# EAGLE library part MK71251-02 (library lz-shield)
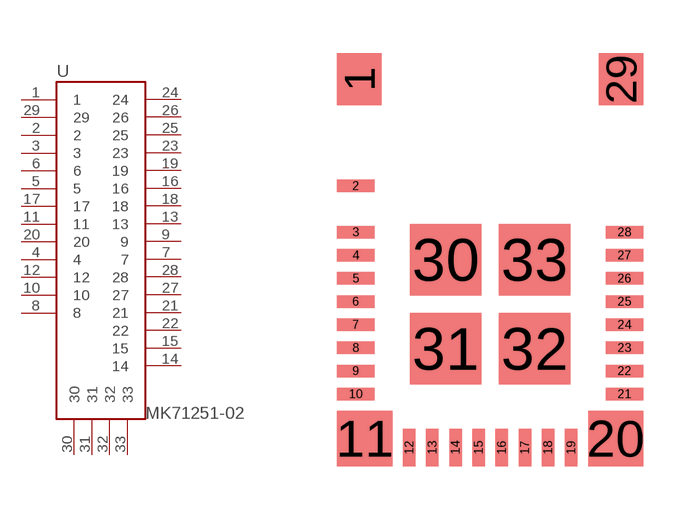
[diagram p4: symbol with the pads of MK71251-02; footprint MK71251-02]

Designator prefix -

## MK71251-02  [MK71251-02]
1  1  nc
2  2  in
3  3
4  4
5  5
6  6
7  7  in
8  8  in
9  9
10  10  in
11  11
12  12  in
13  13
14  14
15  15
16  16
17  17  pwr
18  18
19  19  in
20  20
21  21
22  22
23  23
24  24
25  25
26  26
27  27
28  28
29  29  nc
30  30  pwr
31  31  pwr
32  32  pwr
33  33  pwr

## Footprint MK71251-02 (pad centres in mm)
smd 1.25 x 1.45: 1 -3.675,5.075; 29 3.675,5.075
smd 1.05 x 0.35: 2 -3.775,2.075; 3 -3.775,0.775; 4 -3.775,0.125; 5 -3.775,-0.525; 6 -3.775,-1.175; 7 -3.775,-1.825; 8 -3.775,-2.475; 9 -3.775,-3.125; 10 -3.775,-3.775; 21 3.775,-3.775; 22 3.775,-3.125; 23 3.775,-2.475; 24 3.775,-1.825; 25 3.775,-1.175; 26 3.775,-0.525; 27 3.775,0.125; 28 3.775,0.775
smd 1.55 x 1.55: 11 -3.525,-5.025; 20 3.525,-5.025
smd 0.35 x 1.05: 12 -2.275,-5.275; 13 -1.625,-5.275; 14 -0.975,-5.275; 15 -0.325,-5.275; 16 0.325,-5.275; 17 0.975,-5.275; 18 1.625,-5.275; 19 2.275,-5.275
smd 2 x 2: 30 -1.25,0; 31 -1.25,-2.5; 32 1.25,-2.5; 33 1.25,0